# EAGLE library part FT2232D (library xmaker)
Future Technology Devices International USB 2.0 Slave to Dual UART / FIFO Converter
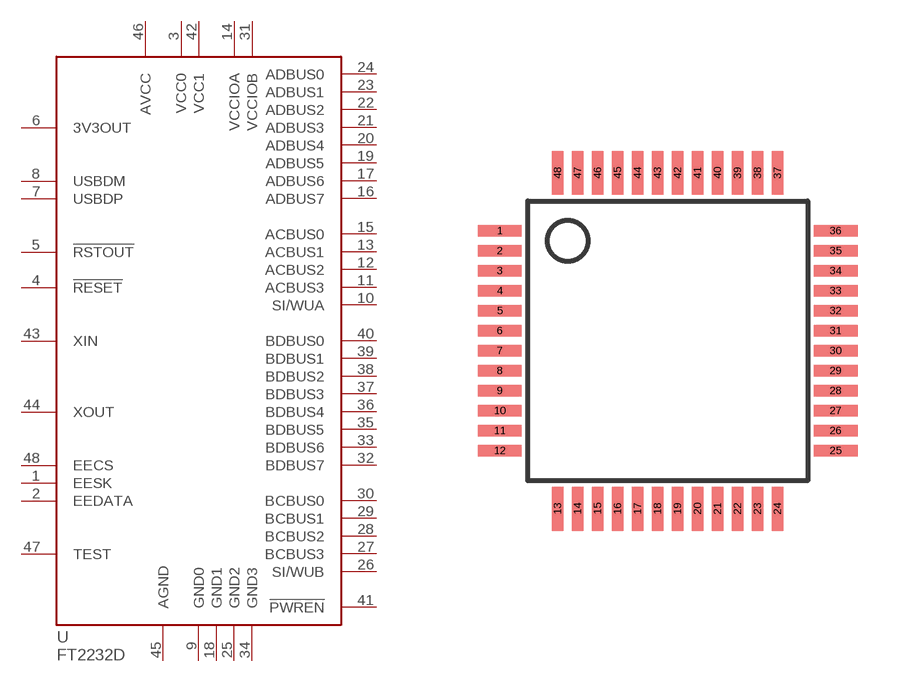
[diagram p23: symbol with the pads of LQFP48-0.5; footprint LQFP48-0.5]

Designator prefix U

## FT2232D  [LQFP48-0.5]
1  EESK
2  EEDATA
3  VCC0
4  !RESET
5  !RSTOUT
6  3V3OUT
7  USBDP
8  USBDM
9  GND0
10  SI/WUA
11  ACBUS3
12  ACBUS2
13  ACBUS1
14  VCCIOA
15  ACBUS0
16  ADBUS7
17  ADBUS6
18  GND1
19  ADBUS5
20  ADBUS4
21  ADBUS3
22  ADBUS2
23  ADBUS1
24  ADBUS0
25  GND2
26  SI/WUB
27  BCBUS3
28  BCBUS2
29  BCBUS1
30  BCBUS0
31  VCCIOB
32  BDBUS7
33  BDBUS6
34  GND3
35  BDBUS5
36  BDBUS4
37  BDBUS3
38  BDBUS2
39  BDBUS1
40  BDBUS0
41  !PWREN
42  VCC1
43  XIN
44  XOUT
45  AGND
46  AVCC
47  TEST
48  EECS

## Footprint LQFP48-0.5 (pad centres in mm)
smd 1.1 x 0.285: 1 -4.2,2.75; 2 -4.2,2.25; 3 -4.2,1.75; 4 -4.2,1.25; 5 -4.2,0.75; 6 -4.2,0.25; 7 -4.2,-0.25; 8 -4.2,-0.75; 9 -4.2,-1.25; 10 -4.2,-1.75; 11 -4.2,-2.25; 12 -4.2,-2.75; 25 4.2,-2.75; 26 4.2,-2.25; 27 4.2,-1.75; 28 4.2,-1.25; 29 4.2,-0.75; 30 4.2,-0.25; 31 4.2,0.25; 32 4.2,0.75; 33 4.2,1.25; 34 4.2,1.75; 35 4.2,2.25; 36 4.2,2.75
smd 0.285 x 1.1: 13 -2.75,-4.2; 14 -2.25,-4.2; 15 -1.75,-4.2; 16 -1.25,-4.2; 17 -0.75,-4.2; 18 -0.25,-4.2; 19 0.25,-4.2; 20 0.75,-4.2; 21 1.25,-4.2; 22 1.75,-4.2; 23 2.25,-4.2; 24 2.75,-4.2; 37 2.75,4.2; 38 2.25,4.2; 39 1.75,4.2; 40 1.25,4.2; 41 0.75,4.2; 42 0.25,4.2; 43 -0.25,4.2; 44 -0.75,4.2; 45 -1.25,4.2; 46 -1.75,4.2; 47 -2.25,4.2; 48 -2.75,4.2